# Altium schematic symbol library WE-KI.SchLib: 314 symbols (part 1 of 6)
Pins are listed as number, name and electrical type; pins without a type are passive.

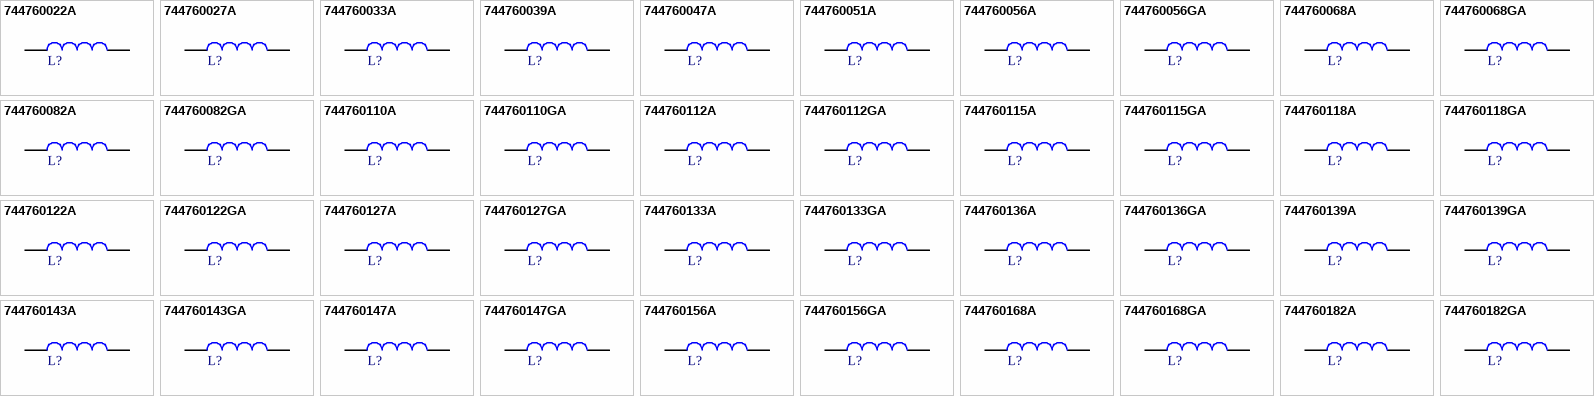
[diagram p0: symbols 744760022A to 744760182GA]

## 744760022A
designator L?, comment 2.2nH  (value not drawn)
WE-KI SMT Wire Wound Ceramic Inductor, size 0805, 2.2nH, 0.8A, 0.06Ω; Manufacturer Part Number: 744760022A; Manufacturer: Wurth Elektronik; Case/Size Code: 0805; Inductance Tolerance: +/-0.2nH; Q Factor: 50; Self Resonant Frequency: 6000MHz; Category: RF Inductors; Match Code: WE-KI; ComponentLink1Description: Website Link; ComponentLink1URL: https://www.we-online.com/redexpert/article/744760022A?ad; ComponentLink2Description: Datasheet Link; ComponentLink2URL: https://www.we-online.com/redexpert/spec/744760022A?ad; Mount: Surface Mount; Operating Temperature Max: 125°C; Operating Temperature Min: -40°C; Packaging: Tape and Reel; Length: 2mm; Width: 1.25mm; Height: 1.2mm; DC Resistance Max: 0.06Ω; Inductance: 2.2nH; Rated Current: 0.8A
footprint WE-KI_0805
simulation model 0805_744760022A_2.2n
pins: 1, 2

## 744760027A
designator L?, comment 2.7nH  (value not drawn)
WE-KI SMT Wire Wound Ceramic Inductor, size 0805, 2.7nH, 0.8A, 0.08Ω; Manufacturer Part Number: 744760027A; Manufacturer: Wurth Elektronik; Case/Size Code: 0805; Inductance Tolerance: +/-0.2nH; Q Factor: 35; Self Resonant Frequency: 6000MHz; Category: RF Inductors; Match Code: WE-KI; ComponentLink1Description: Website Link; ComponentLink1URL: https://www.we-online.com/redexpert/article/744760027A?ad; ComponentLink2Description: Datasheet Link; ComponentLink2URL: https://www.we-online.com/redexpert/spec/744760027A?ad; Mount: Surface Mount; Operating Temperature Max: 125°C; Operating Temperature Min: -40°C; Packaging: Tape and Reel; Length: 2mm; Width: 1.25mm; Height: 1.2mm; DC Resistance Max: 0.08Ω; Inductance: 2.7nH; Rated Current: 0.8A
footprint WE-KI_0805
simulation model 0805_744760027A_2.7n
pins: 1, 2

## 744760033A
designator L?, comment 3.3nH  (value not drawn)
WE-KI SMT Wire Wound Ceramic Inductor, size 0805, 3.3nH, 0.8A, 0.08Ω; Manufacturer Part Number: 744760033A; Manufacturer: Wurth Elektronik; Case/Size Code: 0805; Inductance Tolerance: +/-0.2nH; Q Factor: 60; Self Resonant Frequency: 6000MHz; Category: RF Inductors; Match Code: WE-KI; ComponentLink1Description: Website Link; ComponentLink1URL: https://www.we-online.com/redexpert/article/744760033A?ad; ComponentLink2Description: Datasheet Link; ComponentLink2URL: https://www.we-online.com/redexpert/spec/744760033A?ad; Mount: Surface Mount; Operating Temperature Max: 125°C; Operating Temperature Min: -40°C; Packaging: Tape and Reel; Length: 2mm; Width: 1.25mm; Height: 1.2mm; DC Resistance Max: 0.08Ω; Inductance: 3.3nH; Rated Current: 0.8A
footprint WE-KI_0805
simulation model 0805_744760033A_3.3n
pins: 1, 2

## 744760039A
designator L?, comment 3.9nH  (value not drawn)
WE-KI SMT Wire Wound Ceramic Inductor, size 0805, 3.9nH, 0.6A, 0.06Ω; Manufacturer Part Number: 744760039A; Manufacturer: Wurth Elektronik; Case/Size Code: 0805; Inductance Tolerance: +/-0.2nH; Q Factor: 60; Self Resonant Frequency: 6000MHz; Category: RF Inductors; Match Code: WE-KI; ComponentLink1Description: Website Link; ComponentLink1URL: https://www.we-online.com/redexpert/article/744760039A?ad; ComponentLink2Description: Datasheet Link; ComponentLink2URL: https://www.we-online.com/redexpert/spec/744760039A?ad; Mount: Surface Mount; Operating Temperature Max: 125°C; Operating Temperature Min: -40°C; Packaging: Tape and Reel; Length: 2mm; Width: 1.25mm; Height: 1.2mm; DC Resistance Max: 0.06Ω; Inductance: 3.9nH; Rated Current: 0.6A
footprint WE-KI_0805
simulation model 0805_744760039A_3.9n
pins: 1, 2

## 744760047A
designator L?, comment 4.7nH  (value not drawn)
WE-KI SMT Wire Wound Ceramic Inductor, size 0805, 4.7nH, 0.6A, 0.06Ω; Manufacturer Part Number: 744760047A; Manufacturer: Wurth Elektronik; Case/Size Code: 0805; Inductance Tolerance: +/-0.2nH; Q Factor: 60; Self Resonant Frequency: 5800MHz; Category: RF Inductors; Match Code: WE-KI; ComponentLink1Description: Website Link; ComponentLink1URL: https://www.we-online.com/redexpert/article/744760047A?ad; ComponentLink2Description: Datasheet Link; ComponentLink2URL: https://www.we-online.com/redexpert/spec/744760047A?ad; Mount: Surface Mount; Operating Temperature Max: 125°C; Operating Temperature Min: -40°C; Packaging: Tape and Reel; Length: 2mm; Width: 1.25mm; Height: 1.2mm; DC Resistance Max: 0.06Ω; Inductance: 4.7nH; Rated Current: 0.6A
footprint WE-KI_0805
simulation model 0805_744760047A_4.7n
pins: 1, 2

## 744760051A
designator L?, comment 5.1nH  (value not drawn)
WE-KI SMT Wire Wound Ceramic Inductor, size 0805, 5.1nH, 0.6A, 0.08Ω; Manufacturer Part Number: 744760051A; Manufacturer: Wurth Elektronik; Case/Size Code: 0805; Inductance Tolerance: +/-5%; Q Factor: 60; Self Resonant Frequency: 5800MHz; Category: RF Inductors; Match Code: WE-KI; ComponentLink1Description: Website Link; ComponentLink1URL: https://www.we-online.com/redexpert/article/744760051A?ad; ComponentLink2Description: Datasheet Link; ComponentLink2URL: https://www.we-online.com/redexpert/spec/744760051A?ad; Mount: Surface Mount; Operating Temperature Max: 125°C; Operating Temperature Min: -40°C; Packaging: Tape and Reel; Length: 2mm; Width: 1.25mm; Height: 1.2mm; DC Resistance Max: 0.08Ω; Inductance: 5.1nH; Rated Current: 0.6A
footprint WE-KI_0805
simulation model 0805_744760051A_5.1n
pins: 1, 2

## 744760056A
designator L?, comment 5.6nH  (value not drawn)
WE-KI SMT Wire Wound Ceramic Inductor, size 0805, 5.6nH, 0.6A, 0.08Ω; Manufacturer Part Number: 744760056A; Manufacturer: Wurth Elektronik; Case/Size Code: 0805; Inductance Tolerance: +/-5%; Q Factor: 60; Self Resonant Frequency: 5800MHz; Category: RF Inductors; Match Code: WE-KI; ComponentLink1Description: Website Link; ComponentLink1URL: https://www.we-online.com/redexpert/article/744760056A?ad; ComponentLink2Description: Datasheet Link; ComponentLink2URL: https://www.we-online.com/redexpert/spec/744760056A?ad; Mount: Surface Mount; Operating Temperature Max: 125°C; Operating Temperature Min: -40°C; Packaging: Tape and Reel; Length: 2mm; Width: 1.25mm; Height: 1.2mm; DC Resistance Max: 0.08Ω; Inductance: 5.6nH; Rated Current: 0.6A
footprint WE-KI_0805
simulation model 0805_744760056A_5.6n
pins: 1, 2

## 744760056GA
designator L?, comment 5.6nH  (value not drawn)
WE-KI SMT Wire Wound Ceramic Inductor, size 0805, 5.6nH, 0.6A, 0.08Ω; Manufacturer Part Number: 744760056GA; Manufacturer: Wurth Elektronik; Case/Size Code: 0805; Inductance Tolerance: +/-0.2nH; Q Factor: 60; Self Resonant Frequency: 5800MHz; Category: RF Inductors; Match Code: WE-KI; ComponentLink1Description: Website Link; ComponentLink1URL: https://www.we-online.com/redexpert/article/744760056GA?ad; ComponentLink2Description: Datasheet Link; ComponentLink2URL: https://www.we-online.com/redexpert/spec/744760056GA?ad; Mount: Surface Mount; Operating Temperature Max: 125°C; Operating Temperature Min: -40°C; Packaging: Tape and Reel; Length: 2mm; Width: 1.25mm; Height: 1.2mm; DC Resistance Max: 0.08Ω; Inductance: 5.6nH; Rated Current: 0.6A
footprint WE-KI_0805
simulation model 0805_744760056GA_5.6n
pins: 1, 2

## 744760068A
designator L?, comment 6.8nH  (value not drawn)
WE-KI SMT Wire Wound Ceramic Inductor, size 0805, 6.8nH, 0.6A, 0.06Ω; Manufacturer Part Number: 744760068A; Manufacturer: Wurth Elektronik; Case/Size Code: 0805; Inductance Tolerance: +/-5%; Q Factor: 60; Self Resonant Frequency: 5600MHz; Category: RF Inductors; Match Code: WE-KI; ComponentLink1Description: Website Link; ComponentLink1URL: https://www.we-online.com/redexpert/article/744760068A?ad; ComponentLink2Description: Datasheet Link; ComponentLink2URL: https://www.we-online.com/redexpert/spec/744760068A?ad; Mount: Surface Mount; Operating Temperature Max: 125°C; Operating Temperature Min: -40°C; Packaging: Tape and Reel; Length: 2mm; Width: 1.25mm; Height: 1.2mm; DC Resistance Max: 0.06Ω; Inductance: 6.8nH; Rated Current: 0.6A
footprint WE-KI_0805
simulation model 0805_744760068A_6.8n
pins: 1, 2

## 744760068GA
designator L?, comment 6.8nH  (value not drawn)
WE-KI SMT Wire Wound Ceramic Inductor, size 0805, 6.8nH, 0.6A, 0.06Ω; Manufacturer Part Number: 744760068GA; Manufacturer: Wurth Elektronik; Case/Size Code: 0805; Inductance Tolerance: +/-0.2nH; Q Factor: 60; Self Resonant Frequency: 5600MHz; Category: RF Inductors; Match Code: WE-KI; ComponentLink1Description: Website Link; ComponentLink1URL: https://www.we-online.com/redexpert/article/744760068GA?ad; ComponentLink2Description: Datasheet Link; ComponentLink2URL: https://www.we-online.com/redexpert/spec/744760068GA?ad; Mount: Surface Mount; Operating Temperature Max: 125°C; Operating Temperature Min: -40°C; Packaging: Tape and Reel; Length: 2mm; Width: 1.25mm; Height: 1.2mm; DC Resistance Max: 0.06Ω; Inductance: 6.8nH; Rated Current: 0.6A
footprint WE-KI_0805
simulation model 0805_744760068GA_6.8n
pins: 1, 2

## 744760082A
designator L?, comment 8.2nH  (value not drawn)
WE-KI SMT Wire Wound Ceramic Inductor, size 0805, 8.2nH, 0.6A, 0.06Ω; Manufacturer Part Number: 744760082A; Manufacturer: Wurth Elektronik; Case/Size Code: 0805; Inductance Tolerance: +/-5%; Q Factor: 60; Self Resonant Frequency: 5500MHz; Category: RF Inductors; Match Code: WE-KI; ComponentLink1Description: Website Link; ComponentLink1URL: https://www.we-online.com/redexpert/article/744760082A?ad; ComponentLink2Description: Datasheet Link; ComponentLink2URL: https://www.we-online.com/redexpert/spec/744760082A?ad; Mount: Surface Mount; Operating Temperature Max: 125°C; Operating Temperature Min: -40°C; Packaging: Tape and Reel; Length: 2mm; Width: 1.25mm; Height: 1.2mm; DC Resistance Max: 0.06Ω; Inductance: 8.2nH; Rated Current: 0.6A
footprint WE-KI_0805
simulation model 0805_744760082A_8.2n
pins: 1, 2

## 744760082GA
designator L?, comment 8.2nH  (value not drawn)
WE-KI SMT Wire Wound Ceramic Inductor, size 0805, 8.2nH, 0.6A, 0.06Ω; Manufacturer Part Number: 744760082GA; Manufacturer: Wurth Elektronik; Case/Size Code: 0805; Inductance Tolerance: +/-0.2nH; Q Factor: 60; Self Resonant Frequency: 5500MHz; Category: RF Inductors; Match Code: WE-KI; ComponentLink1Description: Website Link; ComponentLink1URL: https://www.we-online.com/redexpert/article/744760082GA?ad; ComponentLink2Description: Datasheet Link; ComponentLink2URL: https://www.we-online.com/redexpert/spec/744760082GA?ad; Mount: Surface Mount; Operating Temperature Max: 125°C; Operating Temperature Min: -40°C; Packaging: Tape and Reel; Length: 2mm; Width: 1.25mm; Height: 1.2mm; DC Resistance Max: 0.06Ω; Inductance: 8.2nH; Rated Current: 0.6A
footprint WE-KI_0805
simulation model 0805_744760082GA_8.2n
pins: 1, 2

## 744760110A
designator L?, comment 10nH  (value not drawn)
WE-KI SMT Wire Wound Ceramic Inductor, size 0805, 10nH, 0.6A, 0.08Ω; Manufacturer Part Number: 744760110A; Manufacturer: Wurth Elektronik; Case/Size Code: 0805; Inductance Tolerance: +/-5%; Q Factor: 60; Self Resonant Frequency: 4800MHz; Category: RF Inductors; Match Code: WE-KI; ComponentLink1Description: Website Link; ComponentLink1URL: https://www.we-online.com/redexpert/article/744760110A?ad; ComponentLink2Description: Datasheet Link; ComponentLink2URL: https://www.we-online.com/redexpert/spec/744760110A?ad; Mount: Surface Mount; Operating Temperature Max: 125°C; Operating Temperature Min: -40°C; Packaging: Tape and Reel; Length: 2mm; Width: 1.25mm; Height: 1.2mm; DC Resistance Max: 0.08Ω; Inductance: 10nH; Rated Current: 0.6A
footprint WE-KI_0805
simulation model 0805_744760110A_10n
pins: 1, 2

## 744760110GA
designator L?, comment 10nH  (value not drawn)
WE-KI SMT Wire Wound Ceramic Inductor, size 0805, 10nH, 0.6A, 0.08Ω; Manufacturer Part Number: 744760110GA; Manufacturer: Wurth Elektronik; Case/Size Code: 0805; Inductance Tolerance: +/-2%; Q Factor: 60; Self Resonant Frequency: 4800MHz; Category: RF Inductors; Match Code: WE-KI; ComponentLink1Description: Website Link; ComponentLink1URL: https://www.we-online.com/redexpert/article/744760110GA?ad; ComponentLink2Description: Datasheet Link; ComponentLink2URL: https://www.we-online.com/redexpert/spec/744760110GA?ad; Mount: Surface Mount; Operating Temperature Max: 125°C; Operating Temperature Min: -40°C; Packaging: Tape and Reel; Length: 2mm; Width: 1.25mm; Height: 1.2mm; DC Resistance Max: 0.08Ω; Inductance: 10nH; Rated Current: 0.6A
footprint WE-KI_0805
simulation model 0805_744760110GA_10n
pins: 1, 2

## 744760112A
designator L?, comment 12nH  (value not drawn)
WE-KI SMT Wire Wound Ceramic Inductor, size 0805, 12nH, 0.6A, 0.08Ω; Manufacturer Part Number: 744760112A; Manufacturer: Wurth Elektronik; Case/Size Code: 0805; Inductance Tolerance: +/-5%; Q Factor: 60; Self Resonant Frequency: 4100MHz; Category: RF Inductors; Match Code: WE-KI; ComponentLink1Description: Website Link; ComponentLink1URL: https://www.we-online.com/redexpert/article/744760112A?ad; ComponentLink2Description: Datasheet Link; ComponentLink2URL: https://www.we-online.com/redexpert/spec/744760112A?ad; Mount: Surface Mount; Operating Temperature Max: 125°C; Operating Temperature Min: -40°C; Packaging: Tape and Reel; Length: 2mm; Width: 1.25mm; Height: 1.2mm; DC Resistance Max: 0.08Ω; Inductance: 12nH; Rated Current: 0.6A
footprint WE-KI_0805
simulation model 0805_744760112A_12n
pins: 1, 2

## 744760112GA
designator L?, comment 12nH  (value not drawn)
WE-KI SMT Wire Wound Ceramic Inductor, size 0805, 12nH, 0.6A, 0.08Ω; Manufacturer Part Number: 744760112GA; Manufacturer: Wurth Elektronik; Case/Size Code: 0805; Inductance Tolerance: +/-2%; Q Factor: 60; Self Resonant Frequency: 4100MHz; Category: RF Inductors; Match Code: WE-KI; ComponentLink1Description: Website Link; ComponentLink1URL: https://www.we-online.com/redexpert/article/744760112GA?ad; ComponentLink2Description: Datasheet Link; ComponentLink2URL: https://www.we-online.com/redexpert/spec/744760112GA?ad; Mount: Surface Mount; Operating Temperature Max: 125°C; Operating Temperature Min: -40°C; Packaging: Tape and Reel; Length: 2mm; Width: 1.25mm; Height: 1.2mm; DC Resistance Max: 0.08Ω; Inductance: 12nH; Rated Current: 0.6A
footprint WE-KI_0805
simulation model 0805_744760112GA_12n
pins: 1, 2

## 744760115A
designator L?, comment 15nH  (value not drawn)
WE-KI SMT Wire Wound Ceramic Inductor, size 0805, 15nH, 0.6A, 0.08Ω; Manufacturer Part Number: 744760115A; Manufacturer: Wurth Elektronik; Case/Size Code: 0805; Inductance Tolerance: +/-5%; Q Factor: 60; Self Resonant Frequency: 3600MHz; Category: RF Inductors; Match Code: WE-KI; ComponentLink1Description: Website Link; ComponentLink1URL: https://www.we-online.com/redexpert/article/744760115A?ad; ComponentLink2Description: Datasheet Link; ComponentLink2URL: https://www.we-online.com/redexpert/spec/744760115A?ad; Mount: Surface Mount; Operating Temperature Max: 125°C; Operating Temperature Min: -40°C; Packaging: Tape and Reel; Length: 2mm; Width: 1.25mm; Height: 1.2mm; DC Resistance Max: 0.08Ω; Inductance: 15nH; Rated Current: 0.6A
footprint WE-KI_0805
simulation model 0805_744760115A_15n
pins: 1, 2

## 744760115GA
designator L?, comment 15nH  (value not drawn)
WE-KI SMT Wire Wound Ceramic Inductor, size 0805, 15nH, 0.6A, 0.08Ω; Manufacturer Part Number: 744760115GA; Manufacturer: Wurth Elektronik; Case/Size Code: 0805; Inductance Tolerance: +/-2%; Q Factor: 60; Self Resonant Frequency: 3600MHz; Category: RF Inductors; Match Code: WE-KI; ComponentLink1Description: Website Link; ComponentLink1URL: https://www.we-online.com/redexpert/article/744760115GA?ad; ComponentLink2Description: Datasheet Link; ComponentLink2URL: https://www.we-online.com/redexpert/spec/744760115GA?ad; Mount: Surface Mount; Operating Temperature Max: 125°C; Operating Temperature Min: -40°C; Packaging: Tape and Reel; Length: 2mm; Width: 1.25mm; Height: 1.2mm; DC Resistance Max: 0.08Ω; Inductance: 15nH; Rated Current: 0.6A
footprint WE-KI_0805
simulation model 0805_744760115GA_15n
pins: 1, 2

## 744760118A
designator L?, comment 18nH  (value not drawn)
WE-KI SMT Wire Wound Ceramic Inductor, size 0805, 18nH, 0.6A, 0.08Ω; Manufacturer Part Number: 744760118A; Manufacturer: Wurth Elektronik; Case/Size Code: 0805; Inductance Tolerance: +/-5%; Q Factor: 60; Self Resonant Frequency: 3400MHz; Category: RF Inductors; Match Code: WE-KI; ComponentLink1Description: Website Link; ComponentLink1URL: https://www.we-online.com/redexpert/article/744760118A?ad; ComponentLink2Description: Datasheet Link; ComponentLink2URL: https://www.we-online.com/redexpert/spec/744760118A?ad; Mount: Surface Mount; Operating Temperature Max: 125°C; Operating Temperature Min: -40°C; Packaging: Tape and Reel; Length: 2mm; Width: 1.25mm; Height: 1.2mm; DC Resistance Max: 0.08Ω; Inductance: 18nH; Rated Current: 0.6A
footprint WE-KI_0805
simulation model 0805_744760118A_18n
pins: 1, 2

## 744760118GA
designator L?, comment 18nH  (value not drawn)
WE-KI SMT Wire Wound Ceramic Inductor, size 0805, 18nH, 0.6A, 0.08Ω; Manufacturer Part Number: 744760118GA; Manufacturer: Wurth Elektronik; Case/Size Code: 0805; Inductance Tolerance: +/-2%; Q Factor: 60; Self Resonant Frequency: 3400MHz; Category: RF Inductors; Match Code: WE-KI; ComponentLink1Description: Website Link; ComponentLink1URL: https://www.we-online.com/redexpert/article/744760118GA?ad; ComponentLink2Description: Datasheet Link; ComponentLink2URL: https://www.we-online.com/redexpert/spec/744760118GA?ad; Mount: Surface Mount; Operating Temperature Max: 125°C; Operating Temperature Min: -40°C; Packaging: Tape and Reel; Length: 2mm; Width: 1.25mm; Height: 1.2mm; DC Resistance Max: 0.08Ω; Inductance: 18nH; Rated Current: 0.6A
footprint WE-KI_0805
simulation model 0805_744760118GA_18n
pins: 1, 2

## 744760122A
designator L?, comment 22nH  (value not drawn)
WE-KI SMT Wire Wound Ceramic Inductor, size 0805, 22nH, 0.6A, 0.1Ω; Manufacturer Part Number: 744760122A; Manufacturer: Wurth Elektronik; Case/Size Code: 0805; Inductance Tolerance: +/-5%; Q Factor: 60; Self Resonant Frequency: 3300MHz; Category: RF Inductors; Match Code: WE-KI; ComponentLink1Description: Website Link; ComponentLink1URL: https://www.we-online.com/redexpert/article/744760122A?ad; ComponentLink2Description: Datasheet Link; ComponentLink2URL: https://www.we-online.com/redexpert/spec/744760122A?ad; Mount: Surface Mount; Operating Temperature Max: 125°C; Operating Temperature Min: -40°C; Packaging: Tape and Reel; Length: 2mm; Width: 1.25mm; Height: 1.2mm; DC Resistance Max: 0.1Ω; Inductance: 22nH; Rated Current: 0.6A
footprint WE-KI_0805
simulation model 0805_744760122A_22n
pins: 1, 2

## 744760122GA
designator L?, comment 22nH  (value not drawn)
WE-KI SMT Wire Wound Ceramic Inductor, size 0805, 22nH, 0.6A, 0.1Ω; Manufacturer Part Number: 744760122GA; Manufacturer: Wurth Elektronik; Case/Size Code: 0805; Inductance Tolerance: +/-2%; Q Factor: 60; Self Resonant Frequency: 3300MHz; Category: RF Inductors; Match Code: WE-KI; ComponentLink1Description: Website Link; ComponentLink1URL: https://www.we-online.com/redexpert/article/744760122GA?ad; ComponentLink2Description: Datasheet Link; ComponentLink2URL: https://www.we-online.com/redexpert/spec/744760122GA?ad; Mount: Surface Mount; Operating Temperature Max: 125°C; Operating Temperature Min: -40°C; Packaging: Tape and Reel; Length: 2mm; Width: 1.25mm; Height: 1.2mm; DC Resistance Max: 0.1Ω; Inductance: 22nH; Rated Current: 0.6A
footprint WE-KI_0805
simulation model 0805_744760122GA_22n
pins: 1, 2

## 744760127A
designator L?, comment 27nH  (value not drawn)
WE-KI SMT Wire Wound Ceramic Inductor, size 0805, 27nH, 0.6A, 0.12Ω; Manufacturer Part Number: 744760127A; Manufacturer: Wurth Elektronik; Case/Size Code: 0805; Inductance Tolerance: +/-5%; Q Factor: 60; Self Resonant Frequency: 2600MHz; Category: RF Inductors; Match Code: WE-KI; ComponentLink1Description: Website Link; ComponentLink1URL: https://www.we-online.com/redexpert/article/744760127A?ad; ComponentLink2Description: Datasheet Link; ComponentLink2URL: https://www.we-online.com/redexpert/spec/744760127A?ad; Mount: Surface Mount; Operating Temperature Max: 125°C; Operating Temperature Min: -40°C; Packaging: Tape and Reel; Length: 2mm; Width: 1.25mm; Height: 1.2mm; DC Resistance Max: 0.12Ω; Inductance: 27nH; Rated Current: 0.6A
footprint WE-KI_0805
simulation model 0805_744760127A_27n
pins: 1, 2

## 744760127GA
designator L?, comment 27nH  (value not drawn)
WE-KI SMT Wire Wound Ceramic Inductor, size 0805, 27nH, 0.6A, 0.12Ω; Manufacturer Part Number: 744760127GA; Manufacturer: Wurth Elektronik; Case/Size Code: 0805; Inductance Tolerance: +/-2%; Q Factor: 60; Self Resonant Frequency: 2600MHz; Category: RF Inductors; Match Code: WE-KI; ComponentLink1Description: Website Link; ComponentLink1URL: https://www.we-online.com/redexpert/article/744760127GA?ad; ComponentLink2Description: Datasheet Link; ComponentLink2URL: https://www.we-online.com/redexpert/spec/744760127GA?ad; Mount: Surface Mount; Operating Temperature Max: 125°C; Operating Temperature Min: -40°C; Packaging: Tape and Reel; Length: 2mm; Width: 1.25mm; Height: 1.2mm; DC Resistance Max: 0.12Ω; Inductance: 27nH; Rated Current: 0.6A
footprint WE-KI_0805
simulation model 0805_744760127GA_27n
pins: 1, 2

## 744760133A
designator L?, comment 33nH  (value not drawn)
WE-KI SMT Wire Wound Ceramic Inductor, size 0805, 33nH, 0.5A, 0.15Ω; Manufacturer Part Number: 744760133A; Manufacturer: Wurth Elektronik; Case/Size Code: 0805; Inductance Tolerance: +/-5%; Q Factor: 60; Self Resonant Frequency: 2400MHz; Category: RF Inductors; Match Code: WE-KI; ComponentLink1Description: Website Link; ComponentLink1URL: https://www.we-online.com/redexpert/article/744760133A?ad; ComponentLink2Description: Datasheet Link; ComponentLink2URL: https://www.we-online.com/redexpert/spec/744760133A?ad; Mount: Surface Mount; Operating Temperature Max: 125°C; Operating Temperature Min: -40°C; Packaging: Tape and Reel; Length: 2mm; Width: 1.25mm; Height: 1.2mm; DC Resistance Max: 0.15Ω; Inductance: 33nH; Rated Current: 0.5A
footprint WE-KI_0805
simulation model 0805_744760133A_33n
pins: 1, 2

## 744760133GA
designator L?, comment 33nH  (value not drawn)
WE-KI SMT Wire Wound Ceramic Inductor, size 0805, 33nH, 0.5A, 0.15Ω; Manufacturer Part Number: 744760133GA; Manufacturer: Wurth Elektronik; Case/Size Code: 0805; Inductance Tolerance: +/-2%; Q Factor: 60; Self Resonant Frequency: 2400MHz; Category: RF Inductors; Match Code: WE-KI; ComponentLink1Description: Website Link; ComponentLink1URL: https://www.we-online.com/redexpert/article/744760133GA?ad; ComponentLink2Description: Datasheet Link; ComponentLink2URL: https://www.we-online.com/redexpert/spec/744760133GA?ad; Mount: Surface Mount; Operating Temperature Max: 125°C; Operating Temperature Min: -40°C; Packaging: Tape and Reel; Length: 2mm; Width: 1.25mm; Height: 1.2mm; DC Resistance Max: 0.15Ω; Inductance: 33nH; Rated Current: 0.5A
footprint WE-KI_0805
simulation model 0805_744760133GA_33n
pins: 1, 2

## 744760136A
designator L?, comment 36nH  (value not drawn)
WE-KI SMT Wire Wound Ceramic Inductor, size 0805, 36nH, 0.5A, 0.18Ω; Manufacturer Part Number: 744760136A; Manufacturer: Wurth Elektronik; Case/Size Code: 0805; Inductance Tolerance: +/-5%; Q Factor: 60; Self Resonant Frequency: 2000MHz; Category: RF Inductors; Match Code: WE-KI; ComponentLink1Description: Website Link; ComponentLink1URL: https://www.we-online.com/redexpert/article/744760136A?ad; ComponentLink2Description: Datasheet Link; ComponentLink2URL: https://www.we-online.com/redexpert/spec/744760136A?ad; Mount: Surface Mount; Operating Temperature Max: 125°C; Operating Temperature Min: -40°C; Packaging: Tape and Reel; Length: 2mm; Width: 1.25mm; Height: 1.2mm; DC Resistance Max: 0.18Ω; Inductance: 36nH; Rated Current: 0.5A
footprint WE-KI_0805
simulation model 0805_744760136A_36n
pins: 1, 2

## 744760136GA
designator L?, comment 36nH  (value not drawn)
WE-KI SMT Wire Wound Ceramic Inductor, size 0805, 36nH, 0.5A, 0.18Ω; Manufacturer Part Number: 744760136GA; Manufacturer: Wurth Elektronik; Case/Size Code: 0805; Inductance Tolerance: +/-2%; Q Factor: 60; Self Resonant Frequency: 2000MHz; Category: RF Inductors; Match Code: WE-KI; ComponentLink1Description: Website Link; ComponentLink1URL: https://www.we-online.com/redexpert/article/744760136GA?ad; ComponentLink2Description: Datasheet Link; ComponentLink2URL: https://www.we-online.com/redexpert/spec/744760136GA?ad; Mount: Surface Mount; Operating Temperature Max: 125°C; Operating Temperature Min: -40°C; Packaging: Tape and Reel; Length: 2mm; Width: 1.25mm; Height: 1.2mm; DC Resistance Max: 0.18Ω; Inductance: 36nH; Rated Current: 0.5A
footprint WE-KI_0805
simulation model 0805_744760136GA_36n
pins: 1, 2

## 744760139A
designator L?, comment 39nH  (value not drawn)
WE-KI SMT Wire Wound Ceramic Inductor, size 0805, 39nH, 0.5A, 0.18Ω; Manufacturer Part Number: 744760139A; Manufacturer: Wurth Elektronik; Case/Size Code: 0805; Inductance Tolerance: +/-5%; Q Factor: 60; Self Resonant Frequency: 2100MHz; Category: RF Inductors; Match Code: WE-KI; ComponentLink1Description: Website Link; ComponentLink1URL: https://www.we-online.com/redexpert/article/744760139A?ad; ComponentLink2Description: Datasheet Link; ComponentLink2URL: https://www.we-online.com/redexpert/spec/744760139A?ad; Mount: Surface Mount; Operating Temperature Max: 125°C; Operating Temperature Min: -40°C; Packaging: Tape and Reel; Length: 2mm; Width: 1.25mm; Height: 1.2mm; DC Resistance Max: 0.18Ω; Inductance: 39nH; Rated Current: 0.5A
footprint WE-KI_0805
simulation model 0805_744760139A_39n
pins: 1, 2

## 744760139GA
designator L?, comment 39nH  (value not drawn)
WE-KI SMT Wire Wound Ceramic Inductor, size 0805, 39nH, 0.5A, 0.18Ω; Manufacturer Part Number: 744760139GA; Manufacturer: Wurth Elektronik; Case/Size Code: 0805; Inductance Tolerance: +/-2%; Q Factor: 60; Self Resonant Frequency: 2100MHz; Category: RF Inductors; Match Code: WE-KI; ComponentLink1Description: Website Link; ComponentLink1URL: https://www.we-online.com/redexpert/article/744760139GA?ad; ComponentLink2Description: Datasheet Link; ComponentLink2URL: https://www.we-online.com/redexpert/spec/744760139GA?ad; Mount: Surface Mount; Operating Temperature Max: 125°C; Operating Temperature Min: -40°C; Packaging: Tape and Reel; Length: 2mm; Width: 1.25mm; Height: 1.2mm; DC Resistance Max: 0.18Ω; Inductance: 39nH; Rated Current: 0.5A
footprint WE-KI_0805
simulation model 0805_744760139GA_39n
pins: 1, 2

## 744760143A
designator L?, comment 43nH  (value not drawn)
WE-KI SMT Wire Wound Ceramic Inductor, size 0805, 43nH, 0.5A, 0.18Ω; Manufacturer Part Number: 744760143A; Manufacturer: Wurth Elektronik; Case/Size Code: 0805; Inductance Tolerance: +/-5%; Q Factor: 60; Self Resonant Frequency: 1800MHz; Category: RF Inductors; Match Code: WE-KI; ComponentLink1Description: Website Link; ComponentLink1URL: https://www.we-online.com/redexpert/article/744760143A?ad; ComponentLink2Description: Datasheet Link; ComponentLink2URL: https://www.we-online.com/redexpert/spec/744760143A?ad; Mount: Surface Mount; Operating Temperature Max: 125°C; Operating Temperature Min: -40°C; Packaging: Tape and Reel; Length: 2mm; Width: 1.25mm; Height: 1.2mm; DC Resistance Max: 0.18Ω; Inductance: 43nH; Rated Current: 0.5A
footprint WE-KI_0805
simulation model 0805_744760143A_43n
pins: 1, 2

## 744760143GA
designator L?, comment 43nH  (value not drawn)
WE-KI SMT Wire Wound Ceramic Inductor, size 0805, 43nH, 0.5A, 0.18Ω; Manufacturer Part Number: 744760143GA; Manufacturer: Wurth Elektronik; Case/Size Code: 0805; Inductance Tolerance: +/-2%; Q Factor: 60; Self Resonant Frequency: 1800MHz; Category: RF Inductors; Match Code: WE-KI; ComponentLink1Description: Website Link; ComponentLink1URL: https://www.we-online.com/redexpert/article/744760143GA?ad; ComponentLink2Description: Datasheet Link; ComponentLink2URL: https://www.we-online.com/redexpert/spec/744760143GA?ad; Mount: Surface Mount; Operating Temperature Max: 125°C; Operating Temperature Min: -40°C; Packaging: Tape and Reel; Length: 2mm; Width: 1.25mm; Height: 1.2mm; DC Resistance Max: 0.18Ω; Inductance: 43nH; Rated Current: 0.5A
footprint WE-KI_0805
simulation model 0805_744760143GA_43n
pins: 1, 2

## 744760147A
designator L?, comment 47nH  (value not drawn)
WE-KI SMT Wire Wound Ceramic Inductor, size 0805, 47nH, 0.5A, 0.15Ω; Manufacturer Part Number: 744760147A; Manufacturer: Wurth Elektronik; Case/Size Code: 0805; Inductance Tolerance: +/-5%; Q Factor: 60; Self Resonant Frequency: 1700MHz; Category: RF Inductors; Match Code: WE-KI; ComponentLink1Description: Website Link; ComponentLink1URL: https://www.we-online.com/redexpert/article/744760147A?ad; ComponentLink2Description: Datasheet Link; ComponentLink2URL: https://www.we-online.com/redexpert/spec/744760147A?ad; Mount: Surface Mount; Operating Temperature Max: 125°C; Operating Temperature Min: -40°C; Packaging: Tape and Reel; Length: 2mm; Width: 1.25mm; Height: 1.2mm; DC Resistance Max: 0.15Ω; Inductance: 47nH; Rated Current: 0.5A
footprint WE-KI_0805
simulation model 0805_744760147A_47n
pins: 1, 2

## 744760147GA
designator L?, comment 47nH  (value not drawn)
WE-KI SMT Wire Wound Ceramic Inductor, size 0805, 47nH, 0.5A, 0.15Ω; Manufacturer Part Number: 744760147GA; Manufacturer: Wurth Elektronik; Case/Size Code: 0805; Inductance Tolerance: +/-2%; Q Factor: 60; Self Resonant Frequency: 1700MHz; Category: RF Inductors; Match Code: WE-KI; ComponentLink1Description: Website Link; ComponentLink1URL: https://www.we-online.com/redexpert/article/744760147GA?ad; ComponentLink2Description: Datasheet Link; ComponentLink2URL: https://www.we-online.com/redexpert/spec/744760147GA?ad; Mount: Surface Mount; Operating Temperature Max: 125°C; Operating Temperature Min: -40°C; Packaging: Tape and Reel; Length: 2mm; Width: 1.25mm; Height: 1.2mm; DC Resistance Max: 0.15Ω; Inductance: 47nH; Rated Current: 0.5A
footprint WE-KI_0805
simulation model 0805_744760147GA_47n
pins: 1, 2

## 744760156A
designator L?, comment 56nH  (value not drawn)
WE-KI SMT Wire Wound Ceramic Inductor, size 0805, 56nH, 0.5A, 0.25Ω; Manufacturer Part Number: 744760156A; Manufacturer: Wurth Elektronik; Case/Size Code: 0805; Inductance Tolerance: +/-5%; Q Factor: 60; Self Resonant Frequency: 1600MHz; Category: RF Inductors; Match Code: WE-KI; ComponentLink1Description: Website Link; ComponentLink1URL: https://www.we-online.com/redexpert/article/744760156A?ad; ComponentLink2Description: Datasheet Link; ComponentLink2URL: https://www.we-online.com/redexpert/spec/744760156A?ad; Mount: Surface Mount; Operating Temperature Max: 125°C; Operating Temperature Min: -40°C; Packaging: Tape and Reel; Length: 2mm; Width: 1.25mm; Height: 1.2mm; DC Resistance Max: 0.25Ω; Inductance: 56nH; Rated Current: 0.5A
footprint WE-KI_0805
simulation model 0805_744760156A_56n
pins: 1, 2

## 744760156GA
designator L?, comment 56nH  (value not drawn)
WE-KI SMT Wire Wound Ceramic Inductor, size 0805, 56nH, 0.5A, 0.25Ω; Manufacturer Part Number: 744760156GA; Manufacturer: Wurth Elektronik; Case/Size Code: 0805; Inductance Tolerance: +/-2%; Q Factor: 60; Self Resonant Frequency: 1600MHz; Category: RF Inductors; Match Code: WE-KI; ComponentLink1Description: Website Link; ComponentLink1URL: https://www.we-online.com/redexpert/article/744760156GA?ad; ComponentLink2Description: Datasheet Link; ComponentLink2URL: https://www.we-online.com/redexpert/spec/744760156GA?ad; Mount: Surface Mount; Operating Temperature Max: 125°C; Operating Temperature Min: -40°C; Packaging: Tape and Reel; Length: 2mm; Width: 1.25mm; Height: 1.2mm; DC Resistance Max: 0.25Ω; Inductance: 56nH; Rated Current: 0.5A
footprint WE-KI_0805
simulation model 0805_744760156GA_56n
pins: 1, 2

## 744760168A
designator L?, comment 68nH  (value not drawn)
WE-KI SMT Wire Wound Ceramic Inductor, size 0805, 68nH, 0.5A, 0.27Ω; Manufacturer Part Number: 744760168A; Manufacturer: Wurth Elektronik; Case/Size Code: 0805; Inductance Tolerance: +/-5%; Q Factor: 60; Self Resonant Frequency: 1450MHz; Category: RF Inductors; Match Code: WE-KI; ComponentLink1Description: Website Link; ComponentLink1URL: https://www.we-online.com/redexpert/article/744760168A?ad; ComponentLink2Description: Datasheet Link; ComponentLink2URL: https://www.we-online.com/redexpert/spec/744760168A?ad; Mount: Surface Mount; Operating Temperature Max: 125°C; Operating Temperature Min: -40°C; Packaging: Tape and Reel; Length: 2mm; Width: 1.25mm; Height: 1.2mm; DC Resistance Max: 0.27Ω; Inductance: 68nH; Rated Current: 0.5A
footprint WE-KI_0805
simulation model 0805_744760168A_68n
pins: 1, 2

## 744760168GA
designator L?, comment 68nH  (value not drawn)
WE-KI SMT Wire Wound Ceramic Inductor, size 0805, 68nH, 0.5A, 0.27Ω; Manufacturer Part Number: 744760168GA; Manufacturer: Wurth Elektronik; Case/Size Code: 0805; Inductance Tolerance: +/-2%; Q Factor: 60; Self Resonant Frequency: 1450MHz; Category: RF Inductors; Match Code: WE-KI; ComponentLink1Description: Website Link; ComponentLink1URL: https://www.we-online.com/redexpert/article/744760168GA?ad; ComponentLink2Description: Datasheet Link; ComponentLink2URL: https://www.we-online.com/redexpert/spec/744760168GA?ad; Mount: Surface Mount; Operating Temperature Max: 125°C; Operating Temperature Min: -40°C; Packaging: Tape and Reel; Length: 2mm; Width: 1.25mm; Height: 1.2mm; DC Resistance Max: 0.27Ω; Inductance: 68nH; Rated Current: 0.5A
footprint WE-KI_0805
simulation model 0805_744760168GA_68n
pins: 1, 2

## 744760182A
designator L?, comment 82nH  (value not drawn)
WE-KI SMT Wire Wound Ceramic Inductor, size 0805, 82nH, 0.5A, 0.32Ω; Manufacturer Part Number: 744760182A; Manufacturer: Wurth Elektronik; Case/Size Code: 0805; Inductance Tolerance: +/-5%; Q Factor: 60; Self Resonant Frequency: 1350MHz; Category: RF Inductors; Match Code: WE-KI; ComponentLink1Description: Website Link; ComponentLink1URL: https://www.we-online.com/redexpert/article/744760182A?ad; ComponentLink2Description: Datasheet Link; ComponentLink2URL: https://www.we-online.com/redexpert/spec/744760182A?ad; Mount: Surface Mount; Operating Temperature Max: 125°C; Operating Temperature Min: -40°C; Packaging: Tape and Reel; Length: 2mm; Width: 1.25mm; Height: 1.2mm; DC Resistance Max: 0.32Ω; Inductance: 82nH; Rated Current: 0.5A
footprint WE-KI_0805
simulation model 0805_744760182A_82n
pins: 1, 2

## 744760182GA
designator L?, comment 82nH  (value not drawn)
WE-KI SMT Wire Wound Ceramic Inductor, size 0805, 82nH, 0.5A, 0.32Ω; Manufacturer Part Number: 744760182GA; Manufacturer: Wurth Elektronik; Case/Size Code: 0805; Inductance Tolerance: +/-2%; Q Factor: 60; Self Resonant Frequency: 1350MHz; Category: RF Inductors; Match Code: WE-KI; ComponentLink1Description: Website Link; ComponentLink1URL: https://www.we-online.com/redexpert/article/744760182GA?ad; ComponentLink2Description: Datasheet Link; ComponentLink2URL: https://www.we-online.com/redexpert/spec/744760182GA?ad; Mount: Surface Mount; Operating Temperature Max: 125°C; Operating Temperature Min: -40°C; Packaging: Tape and Reel; Length: 2mm; Width: 1.25mm; Height: 1.2mm; DC Resistance Max: 0.32Ω; Inductance: 82nH; Rated Current: 0.5A
footprint WE-KI_0805
simulation model 0805_744760182GA_82n
pins: 1, 2

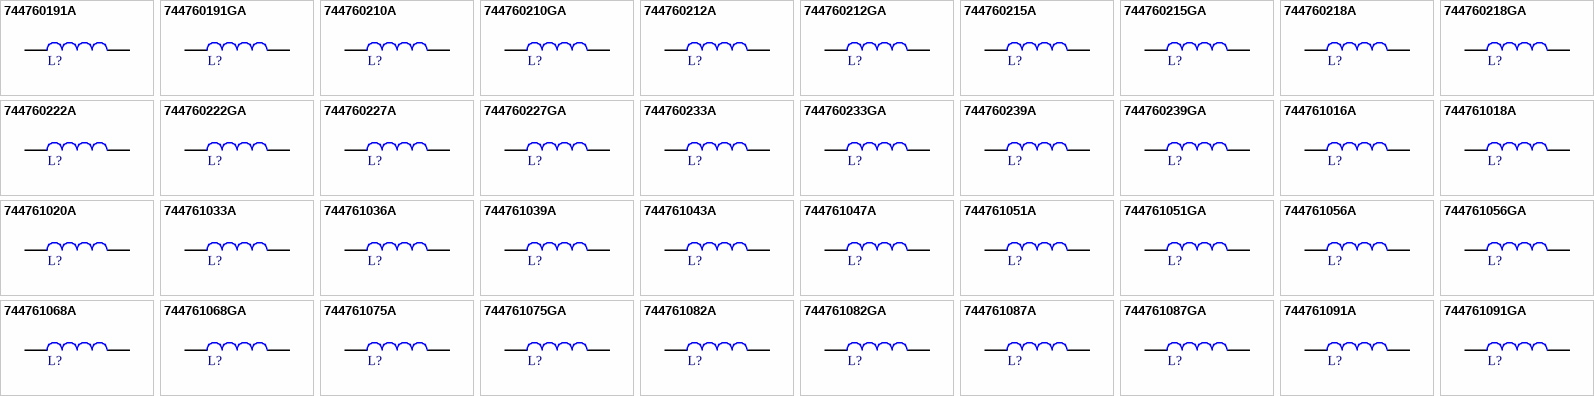
[diagram p1: symbols 744760191A to 744761091GA]

## 744760191A
designator L?, comment 91nH  (value not drawn)
WE-KI SMT Wire Wound Ceramic Inductor, size 0805, 91nH, 0.5A, 0.35Ω; Manufacturer Part Number: 744760191A; Manufacturer: Wurth Elektronik; Case/Size Code: 0805; Inductance Tolerance: +/-5%; Q Factor: 60; Self Resonant Frequency: 1200MHz; Category: RF Inductors; Match Code: WE-KI; ComponentLink1Description: Website Link; ComponentLink1URL: https://www.we-online.com/redexpert/article/744760191A?ad; ComponentLink2Description: Datasheet Link; ComponentLink2URL: https://www.we-online.com/redexpert/spec/744760191A?ad; Mount: Surface Mount; Operating Temperature Max: 125°C; Operating Temperature Min: -40°C; Packaging: Tape and Reel; Length: 2mm; Width: 1.25mm; Height: 1.2mm; DC Resistance Max: 0.35Ω; Inductance: 91nH; Rated Current: 0.5A
footprint WE-KI_0805
simulation model 0805_744760191A_91n
pins: 1, 2

## 744760191GA
designator L?, comment 91nH  (value not drawn)
WE-KI SMT Wire Wound Ceramic Inductor, size 0805, 91nH, 0.5A, 0.35Ω; Manufacturer Part Number: 744760191GA; Manufacturer: Wurth Elektronik; Case/Size Code: 0805; Inductance Tolerance: +/-2%; Q Factor: 60; Self Resonant Frequency: 1200MHz; Category: RF Inductors; Match Code: WE-KI; ComponentLink1Description: Website Link; ComponentLink1URL: https://www.we-online.com/redexpert/article/744760191GA?ad; ComponentLink2Description: Datasheet Link; ComponentLink2URL: https://www.we-online.com/redexpert/spec/744760191GA?ad; Mount: Surface Mount; Operating Temperature Max: 125°C; Operating Temperature Min: -40°C; Packaging: Tape and Reel; Length: 2mm; Width: 1.25mm; Height: 1.2mm; DC Resistance Max: 0.35Ω; Inductance: 91nH; Rated Current: 0.5A
footprint WE-KI_0805
simulation model 0805_744760191GA_91n
pins: 1, 2

## 744760210A
designator L?, comment 100nH  (value not drawn)
WE-KI SMT Wire Wound Ceramic Inductor, size 0805, 100nH, 0.5A, 0.43Ω; Manufacturer Part Number: 744760210A; Manufacturer: Wurth Elektronik; Case/Size Code: 0805; Inductance Tolerance: +/-5%; Q Factor: 60; Self Resonant Frequency: 1200MHz; Category: RF Inductors; Match Code: WE-KI; ComponentLink1Description: Website Link; ComponentLink1URL: https://www.we-online.com/redexpert/article/744760210A?ad; ComponentLink2Description: Datasheet Link; ComponentLink2URL: https://www.we-online.com/redexpert/spec/744760210A?ad; Mount: Surface Mount; Operating Temperature Max: 125°C; Operating Temperature Min: -40°C; Packaging: Tape and Reel; Length: 2mm; Width: 1.25mm; Height: 1.2mm; DC Resistance Max: 0.43Ω; Inductance: 100nH; Rated Current: 0.5A
footprint WE-KI_0805
simulation model 0805_744760210A_100n
pins: 1, 2

## 744760210GA
designator L?, comment 100nH  (value not drawn)
WE-KI SMT Wire Wound Ceramic Inductor, size 0805, 100nH, 0.5A, 0.43Ω; Manufacturer Part Number: 744760210GA; Manufacturer: Wurth Elektronik; Case/Size Code: 0805; Inductance Tolerance: +/-2%; Q Factor: 60; Self Resonant Frequency: 1200MHz; Category: RF Inductors; Match Code: WE-KI; ComponentLink1Description: Website Link; ComponentLink1URL: https://www.we-online.com/redexpert/article/744760210GA?ad; ComponentLink2Description: Datasheet Link; ComponentLink2URL: https://www.we-online.com/redexpert/spec/744760210GA?ad; Mount: Surface Mount; Operating Temperature Max: 125°C; Operating Temperature Min: -40°C; Packaging: Tape and Reel; Length: 2mm; Width: 1.25mm; Height: 1.2mm; DC Resistance Max: 0.43Ω; Inductance: 100nH; Rated Current: 0.5A
footprint WE-KI_0805
simulation model 0805_744760210GA_100n
pins: 1, 2

## 744760212A
designator L?, comment 120nH  (value not drawn)
WE-KI SMT Wire Wound Ceramic Inductor, size 0805, 120nH, 0.5A, 0.48Ω; Manufacturer Part Number: 744760212A; Manufacturer: Wurth Elektronik; Case/Size Code: 0805; Inductance Tolerance: +/-5%; Q Factor: 50; Self Resonant Frequency: 1100MHz; Category: RF Inductors; Match Code: WE-KI; ComponentLink1Description: Website Link; ComponentLink1URL: https://www.we-online.com/redexpert/article/744760212A?ad; ComponentLink2Description: Datasheet Link; ComponentLink2URL: https://www.we-online.com/redexpert/spec/744760212A?ad; Mount: Surface Mount; Operating Temperature Max: 125°C; Operating Temperature Min: -40°C; Packaging: Tape and Reel; Length: 2mm; Width: 1.25mm; Height: 1.2mm; DC Resistance Max: 0.48Ω; Inductance: 120nH; Rated Current: 0.5A
footprint WE-KI_0805
simulation model 0805_744760212A_120n
pins: 1, 2

## 744760212GA
designator L?, comment 120nH  (value not drawn)
WE-KI SMT Wire Wound Ceramic Inductor, size 0805, 120nH, 0.5A, 0.48Ω; Manufacturer Part Number: 744760212GA; Manufacturer: Wurth Elektronik; Case/Size Code: 0805; Inductance Tolerance: +/-2%; Q Factor: 50; Self Resonant Frequency: 1100MHz; Category: RF Inductors; Match Code: WE-KI; ComponentLink1Description: Website Link; ComponentLink1URL: https://www.we-online.com/redexpert/article/744760212GA?ad; ComponentLink2Description: Datasheet Link; ComponentLink2URL: https://www.we-online.com/redexpert/spec/744760212GA?ad; Mount: Surface Mount; Operating Temperature Max: 125°C; Operating Temperature Min: -40°C; Packaging: Tape and Reel; Length: 2mm; Width: 1.25mm; Height: 1.2mm; DC Resistance Max: 0.48Ω; Inductance: 120nH; Rated Current: 0.5A
footprint WE-KI_0805
simulation model 0805_744760212GA_120n
pins: 1, 2

## 744760215A
designator L?, comment 150nH  (value not drawn)
WE-KI SMT Wire Wound Ceramic Inductor, size 0805, 150nH, 0.4A, 0.56Ω; Manufacturer Part Number: 744760215A; Manufacturer: Wurth Elektronik; Case/Size Code: 0805; Inductance Tolerance: +/-5%; Q Factor: 50; Self Resonant Frequency: 950MHz; Category: RF Inductors; Match Code: WE-KI; ComponentLink1Description: Website Link; ComponentLink1URL: https://www.we-online.com/redexpert/article/744760215A?ad; ComponentLink2Description: Datasheet Link; ComponentLink2URL: https://www.we-online.com/redexpert/spec/744760215A?ad; Mount: Surface Mount; Operating Temperature Max: 125°C; Operating Temperature Min: -40°C; Packaging: Tape and Reel; Length: 2mm; Width: 1.25mm; Height: 1.2mm; DC Resistance Max: 0.56Ω; Inductance: 150nH; Rated Current: 0.4A
footprint WE-KI_0805
simulation model 0805_744760215A_150n
pins: 1, 2

## 744760215GA
designator L?, comment 150nH  (value not drawn)
WE-KI SMT Wire Wound Ceramic Inductor, size 0805, 150nH, 0.4A, 0.56Ω; Manufacturer Part Number: 744760215GA; Manufacturer: Wurth Elektronik; Case/Size Code: 0805; Inductance Tolerance: +/-2%; Q Factor: 50; Self Resonant Frequency: 950MHz; Category: RF Inductors; Match Code: WE-KI; ComponentLink1Description: Website Link; ComponentLink1URL: https://www.we-online.com/redexpert/article/744760215GA?ad; ComponentLink2Description: Datasheet Link; ComponentLink2URL: https://www.we-online.com/redexpert/spec/744760215GA?ad; Mount: Surface Mount; Operating Temperature Max: 125°C; Operating Temperature Min: -40°C; Packaging: Tape and Reel; Length: 2mm; Width: 1.25mm; Height: 1.2mm; DC Resistance Max: 0.56Ω; Inductance: 150nH; Rated Current: 0.4A
footprint WE-KI_0805
simulation model 0805_744760215GA_150n
pins: 1, 2

## 744760218A
designator L?, comment 180nH  (value not drawn)
WE-KI SMT Wire Wound Ceramic Inductor, size 0805, 180nH, 0.4A, 0.78Ω; Manufacturer Part Number: 744760218A; Manufacturer: Wurth Elektronik; Case/Size Code: 0805; Inductance Tolerance: +/-5%; Q Factor: 50; Self Resonant Frequency: 900MHz; Category: RF Inductors; Match Code: WE-KI; ComponentLink1Description: Website Link; ComponentLink1URL: https://www.we-online.com/redexpert/article/744760218A?ad; ComponentLink2Description: Datasheet Link; ComponentLink2URL: https://www.we-online.com/redexpert/spec/744760218A?ad; Mount: Surface Mount; Operating Temperature Max: 125°C; Operating Temperature Min: -40°C; Packaging: Tape and Reel; Length: 2mm; Width: 1.25mm; Height: 1.2mm; DC Resistance Max: 0.78Ω; Inductance: 180nH; Rated Current: 0.4A
footprint WE-KI_0805
simulation model 0805_744760218A_180n
pins: 1, 2

## 744760218GA
designator L?, comment 180nH  (value not drawn)
WE-KI SMT Wire Wound Ceramic Inductor, size 0805, 180nH, 0.4A, 0.78Ω; Manufacturer Part Number: 744760218GA; Manufacturer: Wurth Elektronik; Case/Size Code: 0805; Inductance Tolerance: +/-2%; Q Factor: 50; Self Resonant Frequency: 900MHz; Category: RF Inductors; Match Code: WE-KI; ComponentLink1Description: Website Link; ComponentLink1URL: https://www.we-online.com/redexpert/article/744760218GA?ad; ComponentLink2Description: Datasheet Link; ComponentLink2URL: https://www.we-online.com/redexpert/spec/744760218GA?ad; Mount: Surface Mount; Operating Temperature Max: 125°C; Operating Temperature Min: -40°C; Packaging: Tape and Reel; Length: 2mm; Width: 1.25mm; Height: 1.2mm; DC Resistance Max: 0.78Ω; Inductance: 180nH; Rated Current: 0.4A
footprint WE-KI_0805
simulation model 0805_744760218GA_180n
pins: 1, 2

## 744760222A
designator L?, comment 220nH  (value not drawn)
WE-KI SMT Wire Wound Ceramic Inductor, size 0805, 220nH, 0.4A, 1Ω; Manufacturer Part Number: 744760222A; Manufacturer: Wurth Elektronik; Case/Size Code: 0805; Inductance Tolerance: +/-5%; Q Factor: 50; Self Resonant Frequency: 860MHz; Category: RF Inductors; Match Code: WE-KI; ComponentLink1Description: Website Link; ComponentLink1URL: https://www.we-online.com/redexpert/article/744760222A?ad; ComponentLink2Description: Datasheet Link; ComponentLink2URL: https://www.we-online.com/redexpert/spec/744760222A?ad; Mount: Surface Mount; Operating Temperature Max: 125°C; Operating Temperature Min: -40°C; Packaging: Tape and Reel; Length: 2mm; Width: 1.25mm; Height: 1.2mm; DC Resistance Max: 1Ω; Inductance: 220nH; Rated Current: 0.4A
footprint WE-KI_0805
simulation model 0805_744760222A_220n
pins: 1, 2

## 744760222GA
designator L?, comment 220nH  (value not drawn)
WE-KI SMT Wire Wound Ceramic Inductor, size 0805, 220nH, 0.4A, 1Ω; Manufacturer Part Number: 744760222GA; Manufacturer: Wurth Elektronik; Case/Size Code: 0805; Inductance Tolerance: +/-2%; Q Factor: 50; Self Resonant Frequency: 860MHz; Category: RF Inductors; Match Code: WE-KI; ComponentLink1Description: Website Link; ComponentLink1URL: https://www.we-online.com/redexpert/article/744760222GA?ad; ComponentLink2Description: Datasheet Link; ComponentLink2URL: https://www.we-online.com/redexpert/spec/744760222GA?ad; Mount: Surface Mount; Operating Temperature Max: 125°C; Operating Temperature Min: -40°C; Packaging: Tape and Reel; Length: 2mm; Width: 1.25mm; Height: 1.2mm; DC Resistance Max: 1Ω; Inductance: 220nH; Rated Current: 0.4A
footprint WE-KI_0805
simulation model 0805_744760222GA_220n
pins: 1, 2

## 744760227A
designator L?, comment 270nH  (value not drawn)
WE-KI SMT Wire Wound Ceramic Inductor, size 0805, 270nH, 0.35A, 1.46Ω; Manufacturer Part Number: 744760227A; Manufacturer: Wurth Elektronik; Case/Size Code: 0805; Inductance Tolerance: +/-5%; Q Factor: 45; Self Resonant Frequency: 850MHz; Category: RF Inductors; Match Code: WE-KI; ComponentLink1Description: Website Link; ComponentLink1URL: https://www.we-online.com/redexpert/article/744760227A?ad; ComponentLink2Description: Datasheet Link; ComponentLink2URL: https://www.we-online.com/redexpert/spec/744760227A?ad; Mount: Surface Mount; Operating Temperature Max: 125°C; Operating Temperature Min: -40°C; Packaging: Tape and Reel; Length: 2mm; Width: 1.25mm; Height: 1.2mm; DC Resistance Max: 1.46Ω; Inductance: 270nH; Rated Current: 0.35A
footprint WE-KI_0805
simulation model 0805_744760227A_270n
pins: 1, 2

## 744760227GA
designator L?, comment 270nH  (value not drawn)
WE-KI SMT Wire Wound Ceramic Inductor, size 0805, 270nH, 0.35A, 1.46Ω; Manufacturer Part Number: 744760227GA; Manufacturer: Wurth Elektronik; Case/Size Code: 0805; Inductance Tolerance: +/-2%; Q Factor: 45; Self Resonant Frequency: 850MHz; Category: RF Inductors; Match Code: WE-KI; ComponentLink1Description: Website Link; ComponentLink1URL: https://www.we-online.com/redexpert/article/744760227GA?ad; ComponentLink2Description: Datasheet Link; ComponentLink2URL: https://www.we-online.com/redexpert/spec/744760227GA?ad; Mount: Surface Mount; Operating Temperature Max: 125°C; Operating Temperature Min: -40°C; Packaging: Tape and Reel; Length: 2mm; Width: 1.25mm; Height: 1.2mm; DC Resistance Max: 1.46Ω; Inductance: 270nH; Rated Current: 0.35A
footprint WE-KI_0805
simulation model 0805_744760227GA_270n
pins: 1, 2

## 744760233A
designator L?, comment 330nH  (value not drawn)
WE-KI SMT Wire Wound Ceramic Inductor, size 0805, 330nH, 0.3A, 1.65Ω; Manufacturer Part Number: 744760233A; Manufacturer: Wurth Elektronik; Case/Size Code: 0805; Inductance Tolerance: +/-5%; Q Factor: 45; Self Resonant Frequency: 800MHz; Category: RF Inductors; Match Code: WE-KI; ComponentLink1Description: Website Link; ComponentLink1URL: https://www.we-online.com/redexpert/article/744760233A?ad; ComponentLink2Description: Datasheet Link; ComponentLink2URL: https://www.we-online.com/redexpert/spec/744760233A?ad; Mount: Surface Mount; Operating Temperature Max: 125°C; Operating Temperature Min: -40°C; Packaging: Tape and Reel; Length: 2mm; Width: 1.25mm; Height: 1.2mm; DC Resistance Max: 1.65Ω; Inductance: 330nH; Rated Current: 0.3A
footprint WE-KI_0805
simulation model 0805_744760233A_330n
pins: 1, 2

## 744760233GA
designator L?, comment 330nH  (value not drawn)
WE-KI SMT Wire Wound Ceramic Inductor, size 0805, 330nH, 0.3A, 1.65Ω; Manufacturer Part Number: 744760233GA; Manufacturer: Wurth Elektronik; Case/Size Code: 0805; Inductance Tolerance: +/-2%; Q Factor: 45; Self Resonant Frequency: 800MHz; Category: RF Inductors; Match Code: WE-KI; ComponentLink1Description: Website Link; ComponentLink1URL: https://www.we-online.com/redexpert/article/744760233GA?ad; ComponentLink2Description: Datasheet Link; ComponentLink2URL: https://www.we-online.com/redexpert/spec/744760233GA?ad; Mount: Surface Mount; Operating Temperature Max: 125°C; Operating Temperature Min: -40°C; Packaging: Tape and Reel; Length: 2mm; Width: 1.25mm; Height: 1.2mm; DC Resistance Max: 1.65Ω; Inductance: 330nH; Rated Current: 0.3A
footprint WE-KI_0805
simulation model 0805_744760233GA_330n
pins: 1, 2